# Altium footprint library WISP_AD10.PcbLib: 95 footprints (part 5 of 6)
Each footprint in its own frame and in the unit in brackets; x right, y up, seen from the top. Pads: shape width x height; smd on the part's side, far side on the other; paste and mask are expansions set on the pad; w line width, h text height; cw(c..) or ccw(c..) is an arc to the next point about the centre after c.
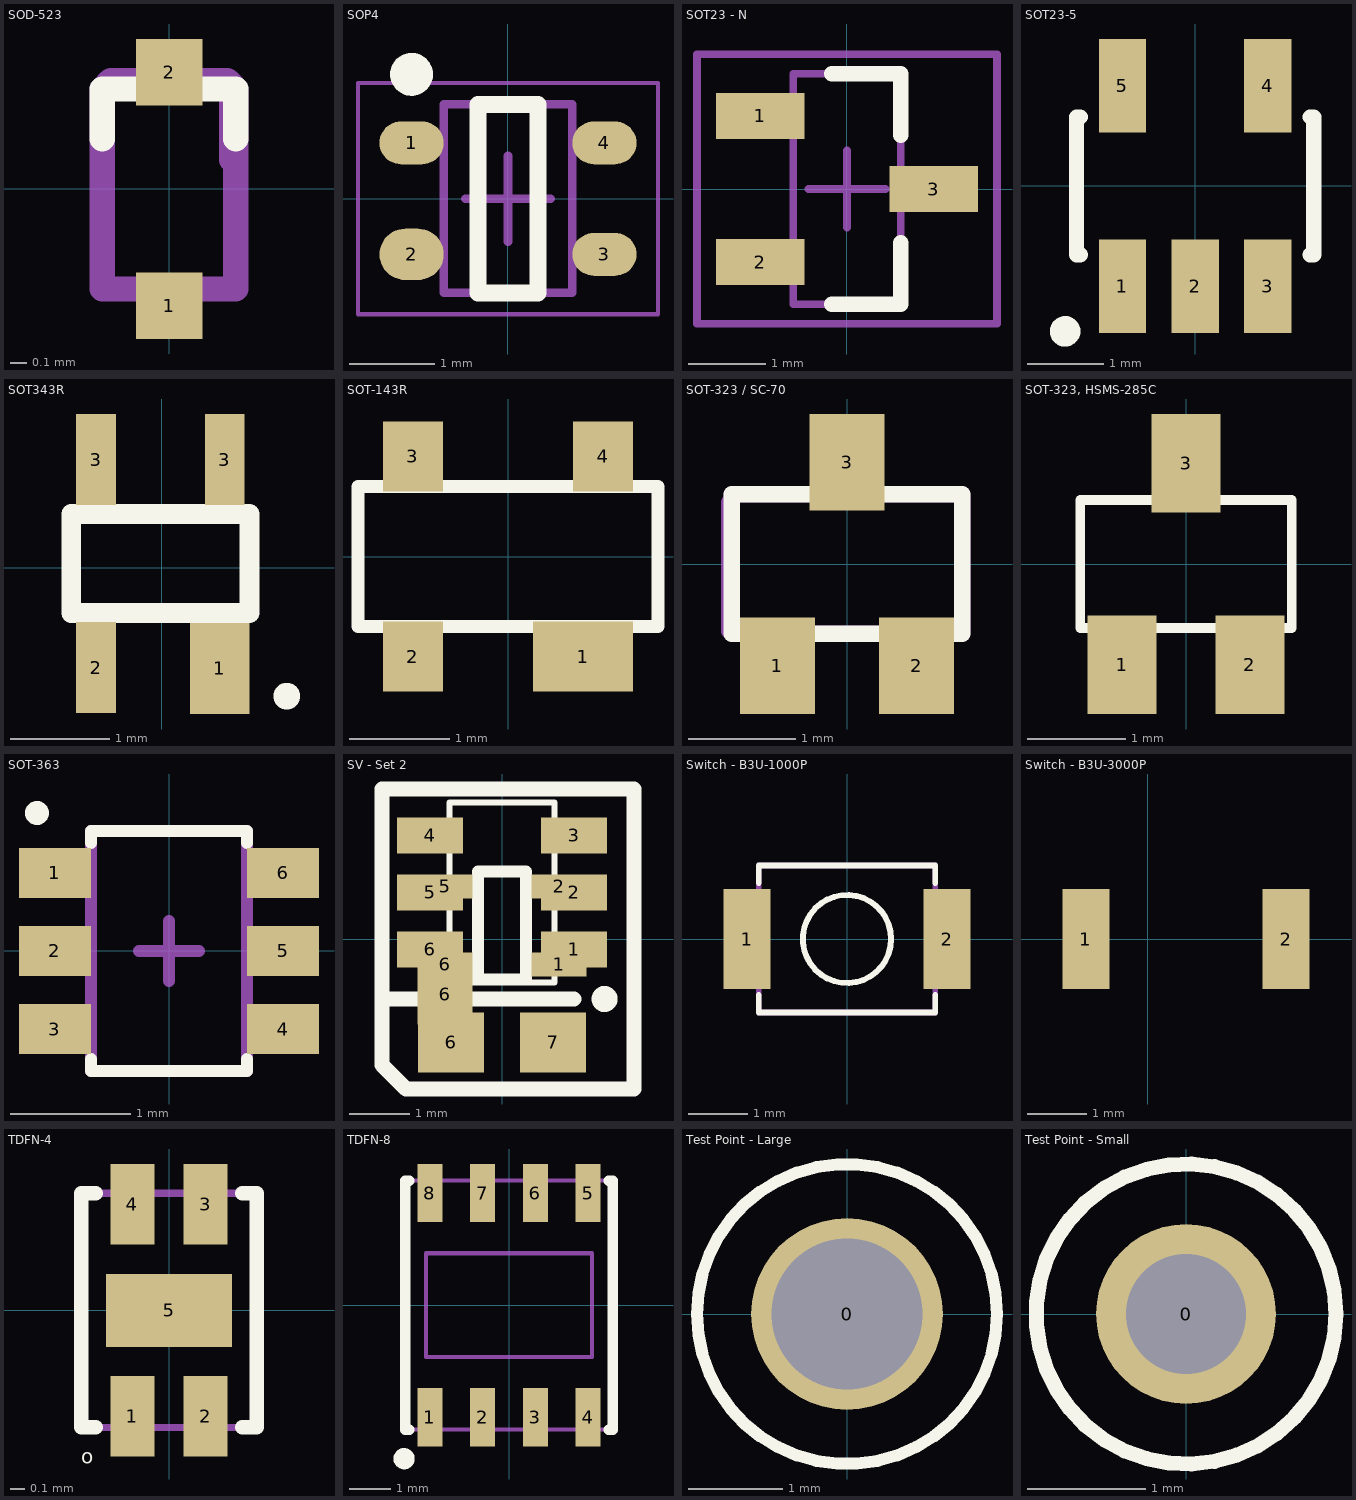
[diagram p4: the footprints below, top view; thin cyan lines are the x and y axes]

## SOD-523 [mm] "SOD-523 Footprint"
height 1
pads (2):
  rect 0.4x0.4 smd: 1(0,-0.7) 2(0,0.7)
Top Overlay:
  lines w0.152: -0.401,0.3 -0.401,0.6 0.399,0.6 0.399,0.3
Mechanical 13:
  lines w0.152: 0.375,0.175 0.375,0.625 0.35,0.65 0.275,0.65 -0.35,0.65 -0.4,0.6 -0.4,-0.6 0.4,-0.6 0.4,0.6
  text ".Designator" at -0.1,-0.25 h0.51
3D body: height 1, standoff 0, extent -0.4,-0.6 0.4,0.6

## SOP4 [mm] "TSOP, 4-Leads, Body 2.00x1.30mm, Pitch 1.30mm, IPC Medium Density"
height 1.05
pads (4):
  oval 0.75x0.5 smd: 1(-1.125,0.65) 3(1.125,-0.65) 4(1.125,0.65)
  oval 0.75x0.6 smd: 2(-1.125,-0.65)
Top Overlay:
  circle w0.25: c-1.125,1.45 r0.125
  lines w0.2: -0.35,-1.1 0.35,-1.1 0.35,1.1 -0.35,1.1 -0.35,-1.1
Mechanical 13:
  lines w0.1: -0.75,-1.1 0.75,-1.1 0.75,1.1 -0.75,1.1 -0.75,-1.1
  text ".designator" at -0.55,-0.15 h0.54
Mechanical 15:
  lines w0.05: -1.75,-1.35 1.75,-1.35 1.75,1.35 -1.75,1.35 -1.75,-1.35
  lines w0.1: -0.5,0 0.5,0 ; 0,-0.5 0,0.5
3D body: height 1.05, standoff 0.05, extent -0.75,-1.1 0.75,1.1

## SOT23 - N [mm] "SOT23, 3-Leads, Body 2.9x1.3mm, Pitch 0.95mm, Lead Span 2.3mm - Reverse Pinning, IPC Medium Density"
height 1.1
pads (3):
  rect 1.15x0.6 smd: 1(-1.125,0.95) 2(-1.125,-0.95) 3(1.125,0)
Top Overlay:
  lines w0.2: -0.2,-1.5 0.7,-1.5 0.7,-0.7 ; -0.2,1.5 0.7,1.5 0.7,0.7
Mechanical 13:
  lines w0.1: -0.7,-1.5 -0.7,1.5 0.7,1.5 0.7,-1.5 -0.7,-1.5
Mechanical 15:
  lines w0.1: -0.5,0 0.5,0 ; 0,-0.5 0,0.5 ; -1.95,-1.75 -1.95,1.75 1.95,1.75 1.95,-1.75 -1.95,-1.75
3D body: height 1.1, standoff 0, extent -0.7,-1.5 0.7,1.5

## SOT23-5 [mm] "SOT23-5"
height 1.27
pads (5):
  rect 0.62x1.22 smd: 1(-0.95,-1.31) 2(0,-1.31) 3(0.95,-1.31) 4(0.95,1.31) 5(-0.95,1.31)
Top Overlay:
  circle w0.2: c-1.7,-1.9 r0.1
  lines w0.2: -1.5,-0.9 -1.55,-0.9 -1.55,0.9 -1.5,0.9 ; 1.5,-0.9 1.55,-0.9 1.55,0.9 1.5,0.9
3D body: height 1, standoff 0, extent -1.55,-0.9 1.55,0.9

## SOT343R [mm] "SOT343R - Package for BF1101WR"
height 1.1
pads (4):
  rect 0.6x0.92 smd: 1(0.584,-1.016)
  rect 0.4x0.92 smd: 2(-0.664,-1.007) 3(-0.664,1.093) 3(0.636,1.093)
Top Overlay:
  circle w0.254: c1.262,-1.295 r0.008
  lines w0.2: -0.914,-0.457 0.886,-0.457 0.886,0.543 -0.914,0.543 -0.914,-0.457
Mechanical 13:
  circle w0.1: c0.584,-1.016 r0.051
  lines w0.1: -0.914,-0.457 0.886,-0.457 0.886,0.543 -0.914,0.543 -0.914,-0.457
  text ".Designator" at 0.7,0.3 h0.51
3D body: height 1.1, standoff 0, extent -0.914,-0.457 0.886,0.543

## SOT-143R [mm] "SOT-143R for BF1105R"
height 1.1
pads (4):
  rect 1x0.7 smd: 1(0.75,-1)
  rect 0.6x0.7 smd: 2(-0.95,-1) 3(-0.95,1) 4(0.95,1)
Top Overlay:
  lines w0.127: -1.5,-0.7 1.5,-0.7 1.5,0.7 -1.5,0.7 -1.5,-0.7
Mechanical 13:
  circle w0.254: c0.75,-1 r0.025
  lines w0.1: -1.5,-0.7 -1.5,0.7 1.5,0.7 1.5,-0.7 -1.5,-0.7
  text ".Designator" at -1.3,-0.2 h0.51
3D body: height 1.1, standoff 0, extent -1.5,-0.7 1.5,0.7

## SOT-323 / SC-70 [mm] "SOT-323 / SC-70; 3 Lead Package"
height 1
pads (3):
  rect 0.7x0.9 smd: 1(-0.65,-0.95) 2(0.65,-0.95) 3(0,0.95)
Top Overlay:
  lines w0.152: -1.075,-0.65 1.075,-0.65 1.075,0.65 -1.075,0.65 -1.075,-0.65
Mechanical 13:
  circle w0.1: c-0.65,-0.95 r0.042
  lines w0.152: -1.1,0.575 -1.1,-0.625 -1.075,-0.65 1.075,-0.65 1.075,0.65 -1.075,0.65
  text ".Designator" at -0.85,-0.25 h0.51
3D body: height 1, standoff 0, extent -1.075,-0.65 1.075,0.65

## SOT-323, HSMS-285C [mm] "SOT-323/SC-70; 3 Leads; HSMS-285C"
height 1
pads (3):
  rect 0.7x1 smd: 1(-0.65,-1.025) 2(0.65,-1.025) 3(0,1.025)
Top Overlay:
  lines w0.1: -1.075,-0.65 1.075,-0.65 1.075,0.65 -1.075,0.65 -1.075,-0.65
3D body: height 1, standoff 0, extent -1.075,-0.65 1.075,0.65

## SOT-363 [mm] "SOT-363 ,SC-88 ,6 Lead"
height 1
pads (6):
  rect 0.6x0.42 smd: 1(-0.95,0.65) 2(-0.95,0) 3(-0.95,-0.65) 4(0.95,-0.65) 5(0.95,0) 6(0.95,0.65)
Top Overlay:
  circle w0.1: c-1.1,1.15 r0.05
  lines w0.1: -0.65,-0.9 -0.65,-1 0.65,-1 0.65,-0.9 ; -0.65,0.9 -0.65,1 0.65,1 0.65,0.9
Mechanical 13:
  circle w0.1: c-0.95,0.65 r0.05
  lines w0.1: -0.65,-1 0.65,-1 0.65,1 -0.65,1 -0.65,-1
  text ".Designator" at -0.25,0.8 h0.46
Mechanical 15:
  lines w0.1: -0.25,0 0.25,0 ; 0,-0.25 0,0.25
3D body: height 1, standoff 0, extent -0.65,-1 0.65,1

## SV - Set 2 [mm] "S-1000 (SOT-23-5, SC-82);  S1009 (SOT-23-5);  XC61C (SC-82, SOT-23);  NCP300 (SOT-23-5)"
pads (13):
  rect 0.92x0.4 smd: 1(0.95,-0.425) 2(0.95,0.875) 5(-0.95,0.875) 6(-0.95,-0.425)
  rect 1.1x0.6 smd: 1(1.2,-0.175) 2(1.2,0.775) 3(1.2,1.725) 4(-1.2,1.725) 5(-1.2,0.775) 6(-1.2,-0.175)
  rect 0.92x1 smd: 6(-0.95,-0.925)
  rect 1.1x1 smd: 6(-0.85,-1.725) 7(0.85,-1.725)
Top Overlay:
  circle w0.254: c1.71,-1 r0.09
  lines w0.1: -0.875,-0.725 -0.875,2.275 0.875,2.275 0.875,-0.725 -0.875,-0.725
  lines w0.2: 0.4,-0.675 -0.4,-0.675 -0.4,1.125 0.4,1.125 0.4,-0.675
  lines w0.254: -2,-1 1.2,-1 ; -2,-2.1 -2,2.5 2.2,2.5 2.2,-2.5 -1.6,-2.5 -2,-2.1

## Switch - B3U-1000P [mm] "Top Push Button Switch, OMRON, SPST-NO, Off-Mom, 0.05A 12V"
height 1.6
pads (2):
  rect 0.8x1.7 smd: 1(-1.7,0) 2(1.7,0)
Top Overlay:
  circle w0.1: c0,0 r0.75
  lines w0.1: -1.5,-0.95 -1.5,-1.25 1.5,-1.25 1.5,-0.95 ; -1.5,0.95 -1.5,1.25 1.5,1.25 1.5,0.95
Mechanical 13:
  lines w0.1: -1.5,1.25 1.5,1.25 ; -1.5,1.25 -1.5,-1.25 1.5,-1.25 1.5,1.25 ; -1.5,1.25 1.5,1.25
  text ".Designator" at -1.143,-0.381 h0.76
3D body: height 1.6, standoff 0, extent -0.8,-0.7 0.694,0.797
3D body: height 1.2, standoff 0, extent -1.5,-1.25 1.5,1.25

## Switch - B3U-3000P [mm] "Side Push Button Switch, OMRON, SPST-NO, Off-Mom, 0.05A 12V"
height 1.2
pads (2):
  rect 0.8x1.7 smd: 1(-1.05,0) 2(2.35,0)
3D body: height 1.2, standoff 0, extent -0.825,-1.25 2.175,1.25
3D body: height 1.2, standoff 0, extent 0.125,1.25 1.125,1.975

## TDFN-4 [mm] "TDFN4 1.2 x 1.6"
height 0.55
pads (5):
  rect 0.3x0.55 smd: 1(-0.25,-0.725) 2(0.25,-0.725) 3(0.25,0.725) 4(-0.25,0.725)
  rect 0.86x0.5 smd: 5(0,0)
Top Overlay:
  lines w0.1: -0.5,-0.8 -0.6,-0.8 -0.6,0.8 -0.5,0.8 ; 0.5,-0.8 0.6,-0.8 0.6,0.8 0.5,0.8
  text "o" at -0.6,-1.05 h0.1
Mechanical 13:
  circle w0.1: c-0.25,-0.725 r0.025
  lines w0.05: -0.6,-0.8 -0.6,0.8 0.6,0.8 0.6,-0.8 -0.6,-0.8
  text ".Designator" at 0.102,-0.66 h0.25
3D body: height 0.55, standoff 0, extent -0.6,-0.8 0.6,0.8

## TDFN-8 [mm] "FM25V20 - 2Mb SPI F-RAM"
height 0.5
pads (8):
  rect 0.6x1.4 smd: 1(-1.905,-2.7) 2(-0.635,-2.7) 3(0.635,-2.7) 4(1.905,-2.7) 5(1.905,2.7) 6(0.635,2.7) 7(-0.635,2.7) 8(-1.905,2.7)
Top Overlay:
  circle w0.254: c-2.527,-3.7 r0.127
  lines w0.254: -2.4,-3 -2.5,-3 -2.5,3 -2.4,3 ; 2.4,-3 2.5,-3 2.5,3 2.4,3
Mechanical 3:
  lines w0.1: -2,-1.25 -2,1.25 2,1.25 2,-1.25 -2,-1.25
  text "Exposed floating pad:" at -1.8,0.8 h0.13
  text "minimize traces" at -1.8,0.5 h0.13
  text "routing in this area." at -1.8,0.2 h0.13
Mechanical 13:
  circle w0.1: c-1.905,-2.7 r0.085
  lines w0.1: -2.5,-3 2.5,-3 2.5,3 -2.5,3 -2.5,-3
  text ".Designator" at -1.397,-1.651 h0.56
3D body: height 0.75, standoff 0, extent -2.5,-3 2.5,3

## Test Point - Large [mil] "Test Point, 63mil hole, example DK: 5012K-ND"
pads (1):
  round 80 hole 63: 0(0,0)
Top Overlay:
  circle w5: c0,0 r62.5

## Test Point - Small [mil] "Test Point, 40mil hole, example DK: 5000K-ND"
pads (1):
  round 60 hole 40: 0(0,0)
Top Overlay:
  circle w5: c0,0 r50